# Altium schematic symbol library LL_project.SchLib: 12 symbols
Pins are listed as number, name and electrical type; pins without a type are passive.

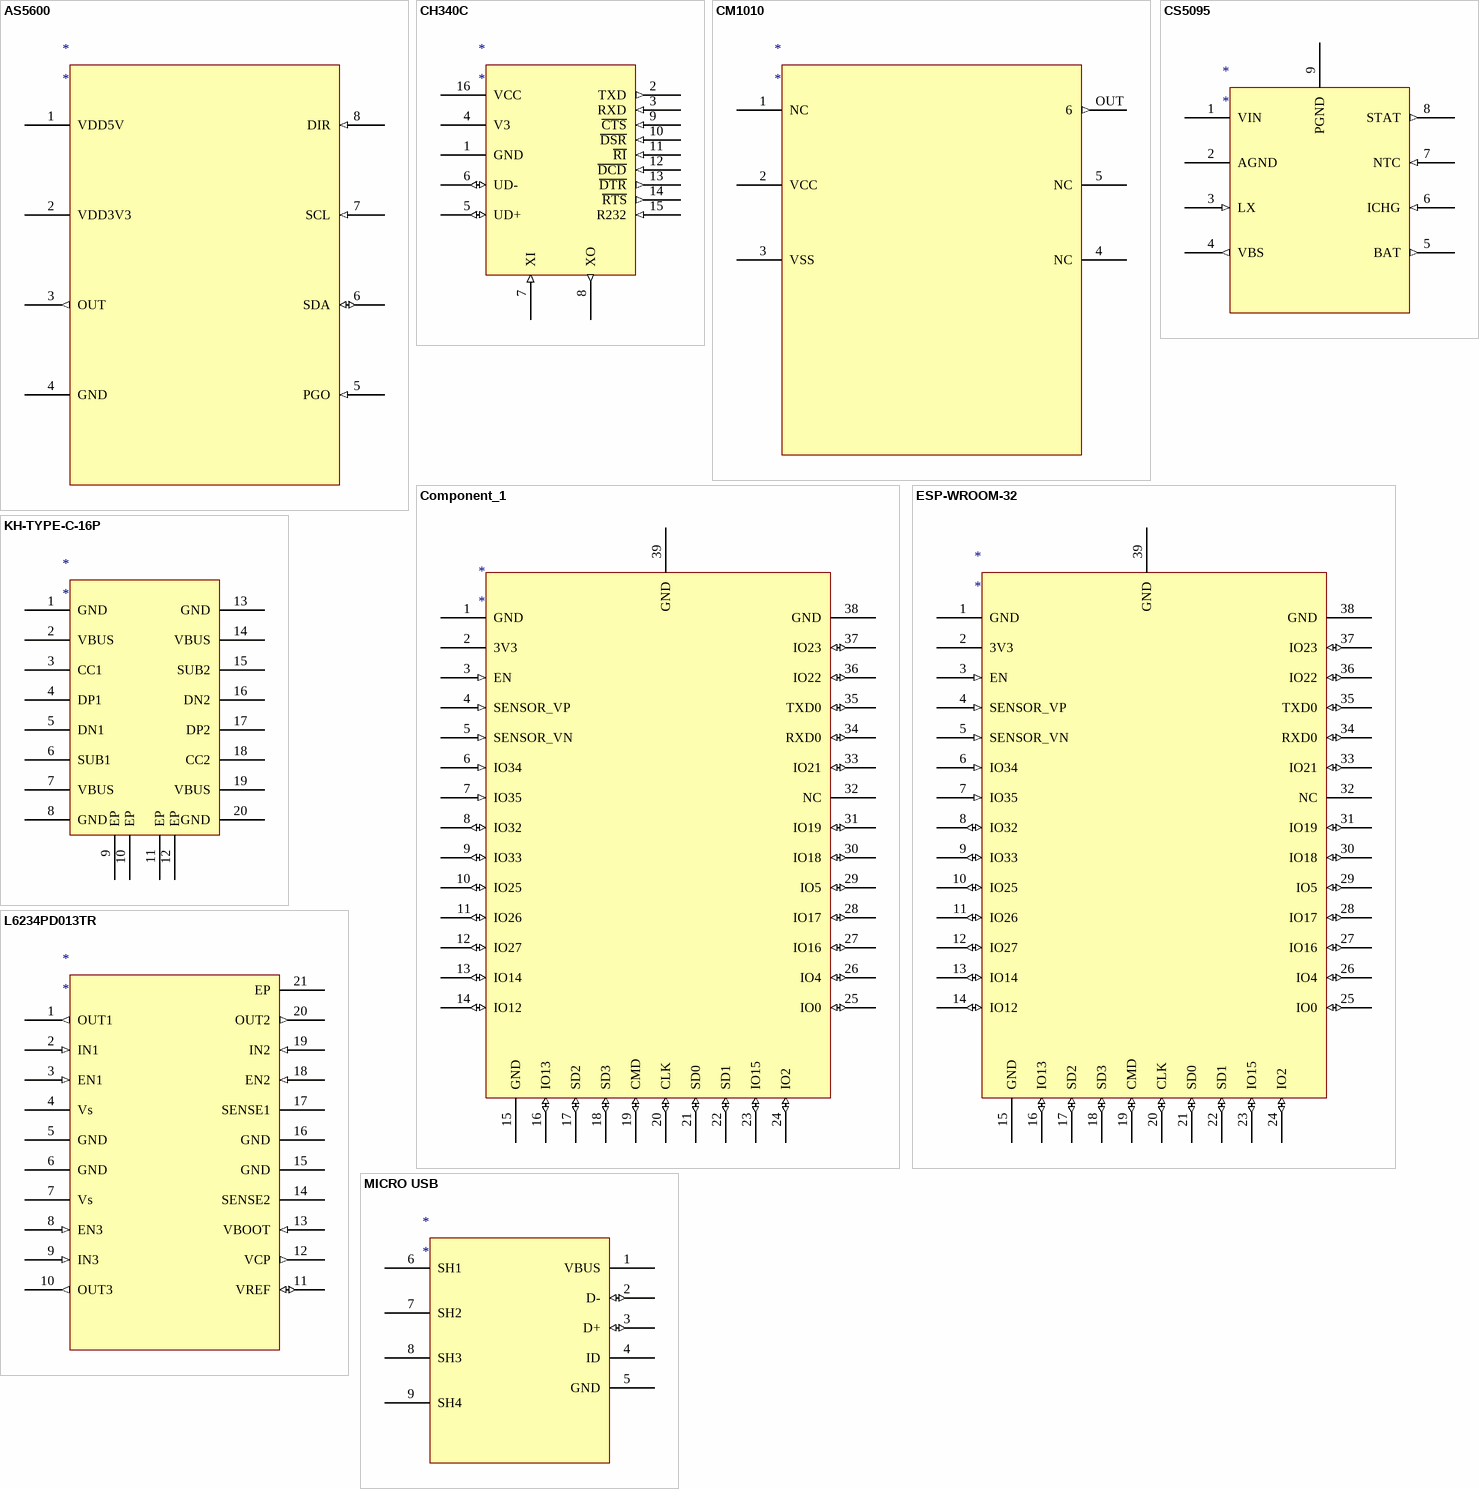
[diagram p0: symbols AS5600 to MICRO USB]

## AS5600
designator *
pins: 1 VDD5V (power), 2 VDD3V3 (power), 3 OUT (out), 4 GND (power), 5 PGO (in), 6 SDA (io), 7 SCL (in), 8 DIR (in)

## CH340C
designator *
pins: 1 GND (power), 2 TXD (out), 3 RXD (in), 4 V3 (power), 5 UD+ (io), 6 UD- (io), 7 XI (in), 8 XO (out), 9 ~{CTS} (in), 10 ~{DSR} (in), 11 ~{RI} (in), 12 ~{DCD} (in), 13 ~{DTR} (out), 14 ~{RTS} (out), 15 R232 (in), 16 VCC (power)

## CM1010
designator *
pins: 1 NC, 2 VCC (power), 3 VSS (power), 4 NC, 5 NC, OUT 6 (out)

## Component_1
designator *
pins: 1 GND, 2 3V3, 3 EN (in), 4 SENSOR_VP (in), 5 SENSOR_VN (in), 6 IO34 (in), 7 IO35 (in), 8 IO32 (io), 9 IO33 (io), 10 IO25 (io), 11 IO26 (io), 12 IO27 (io), 13 IO14 (io), 14 IO12 (io), 15 GND, 16 IO13 (io), 17 SD2 (io), 18 SD3 (io), 19 CMD (io), 20 CLK (io), 21 SD0 (io), 22 SD1 (io), 23 IO15 (io), 24 IO2 (io), 25 IO0 (io), 26 IO4 (io), 27 IO16 (io), 28 IO17 (io), 29 IO5 (io), 30 IO18 (io), 31 IO19 (io), 32 NC, 33 IO21 (io), 34 RXD0 (io), 35 TXD0 (io), 36 IO22 (io), 37 IO23 (io), 38 GND, 39 GND

## CS5095
designator *
pins: 1 VIN (power), 2 AGND (power), 3 LX (in), 4 VBS (out), 5 BAT (out), 6 ICHG (in), 7 NTC (in), 8 STAT (out), 9 PGND (power)

## ESP-WROOM-32
designator *
pins: 1 GND (power), 2 3V3 (power), 3 EN (in), 4 SENSOR_VP (in), 5 SENSOR_VN (in), 6 IO34 (in), 7 IO35 (in), 8 IO32 (io), 9 IO33 (io), 10 IO25 (io), 11 IO26 (io), 12 IO27 (io), 13 IO14 (io), 14 IO12 (io), 15 GND, 16 IO13 (io), 17 SD2 (io), 18 SD3 (io), 19 CMD (io), 20 CLK (io), 21 SD0 (io), 22 SD1 (io), 23 IO15 (io), 24 IO2 (io), 25 IO0 (io), 26 IO4 (io), 27 IO16 (io), 28 IO17 (io), 29 IO5 (io), 30 IO18 (io), 31 IO19 (io), 32 NC, 33 IO21 (io), 34 RXD0 (io), 35 TXD0 (io), 36 IO22 (io), 37 IO23 (io), 38 GND, 39 GND

## KH-TYPE-C-16P
designator *
pins: 1 GND (power), 2 VBUS (power), 3 CC1, 4 DP1, 5 DN1, 6 SUB1, 7 VBUS (power), 8 GND (power), 9 EP, 10 EP, 11 EP, 12 EP, 13 GND (power), 14 VBUS (power), 15 SUB2, 16 DN2, 17 DP2, 18 CC2, 19 VBUS (power), 20 GND (power)

## L6234PD013TR
designator *
pins: 1 OUT1 (out), 2 IN1 (in), 3 EN1 (in), 4 Vs (power), 5 GND, 6 GND, 7 Vs (power), 8 EN3 (in), 9 IN3 (in), 10 OUT3 (out), 11 VREF (io), 12 VCP (out), 13 VBOOT (in), 14 SENSE2, 15 GND, 16 GND, 17 SENSE1, 18 EN2 (in), 19 IN2 (in), 20 OUT2 (out), 21 EP

## MICRO USB
designator *
pins: 1 VBUS (power), 2 D- (io), 3 D+ (io), 4 ID, 5 GND (power), 6 SH1, 7 SH2, 8 SH3, 9 SH4

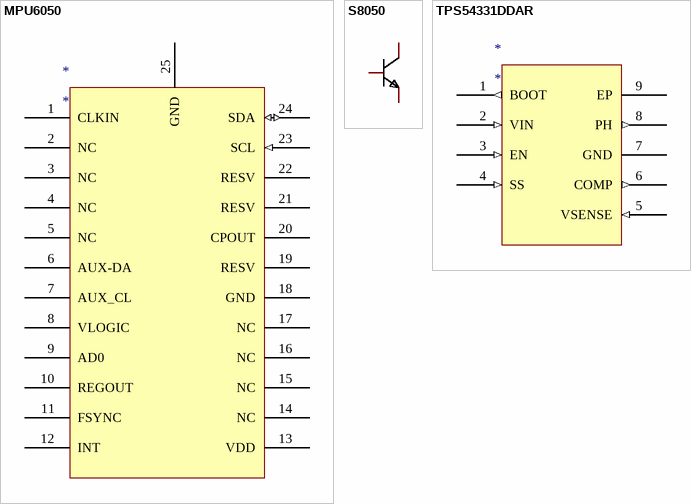
[diagram p1: symbols MPU6050 to TPS54331DDAR]

## MPU6050
designator *
pins: 1 CLKIN, 2 NC, 3 NC, 4 NC, 5 NC, 6 AUX-DA, 7 AUX_CL, 8 VLOGIC, 9 AD0, 10 REGOUT, 11 FSYNC, 12 INT, 13 VDD (power), 14 NC, 15 NC, 16 NC, 17 NC, 18 GND (power), 19 RESV, 20 CPOUT, 21 RESV, 22 RESV, 23 SCL (in), 24 SDA (io), 25 GND (power)

## S8050
designator Q?  (value not drawn)
Manufacturer: Doeshare(德芯); Symbol: S8050_C2931719; Add into BOM: yes; Name: S8050; Device: S8050; LCSC Part Name: S8050; Supplier Part: C2931719; Manufacturer Part: S8050; Supplier Footprint: SOT-23; JLCPCB Part Class: Extended Part; Datasheet: https://atta.szlcsc.com/upload/public/pdf/source/20220117/E6D3315E0D6ADDB25840BFFAC039C5C0.pdf; Supplier: LCSC; Convert to PCB: yes
3D model SOT-23-3P_L2.9-W1.3-H1.0-LS2.4-P0.95
pins: 1 B, 2 E, 3 C

## TPS54331DDAR
designator *
pins: 1 BOOT (out), 2 VIN (in), 3 EN (in), 4 SS (in), 5 VSENSE (in), 6 COMP (out), 7 GND (power), 8 PH (out), 9 EP